# Altium integrated library Texas Instruments Interface I2C.IntLib: 424 symbols (part 20 of 23)
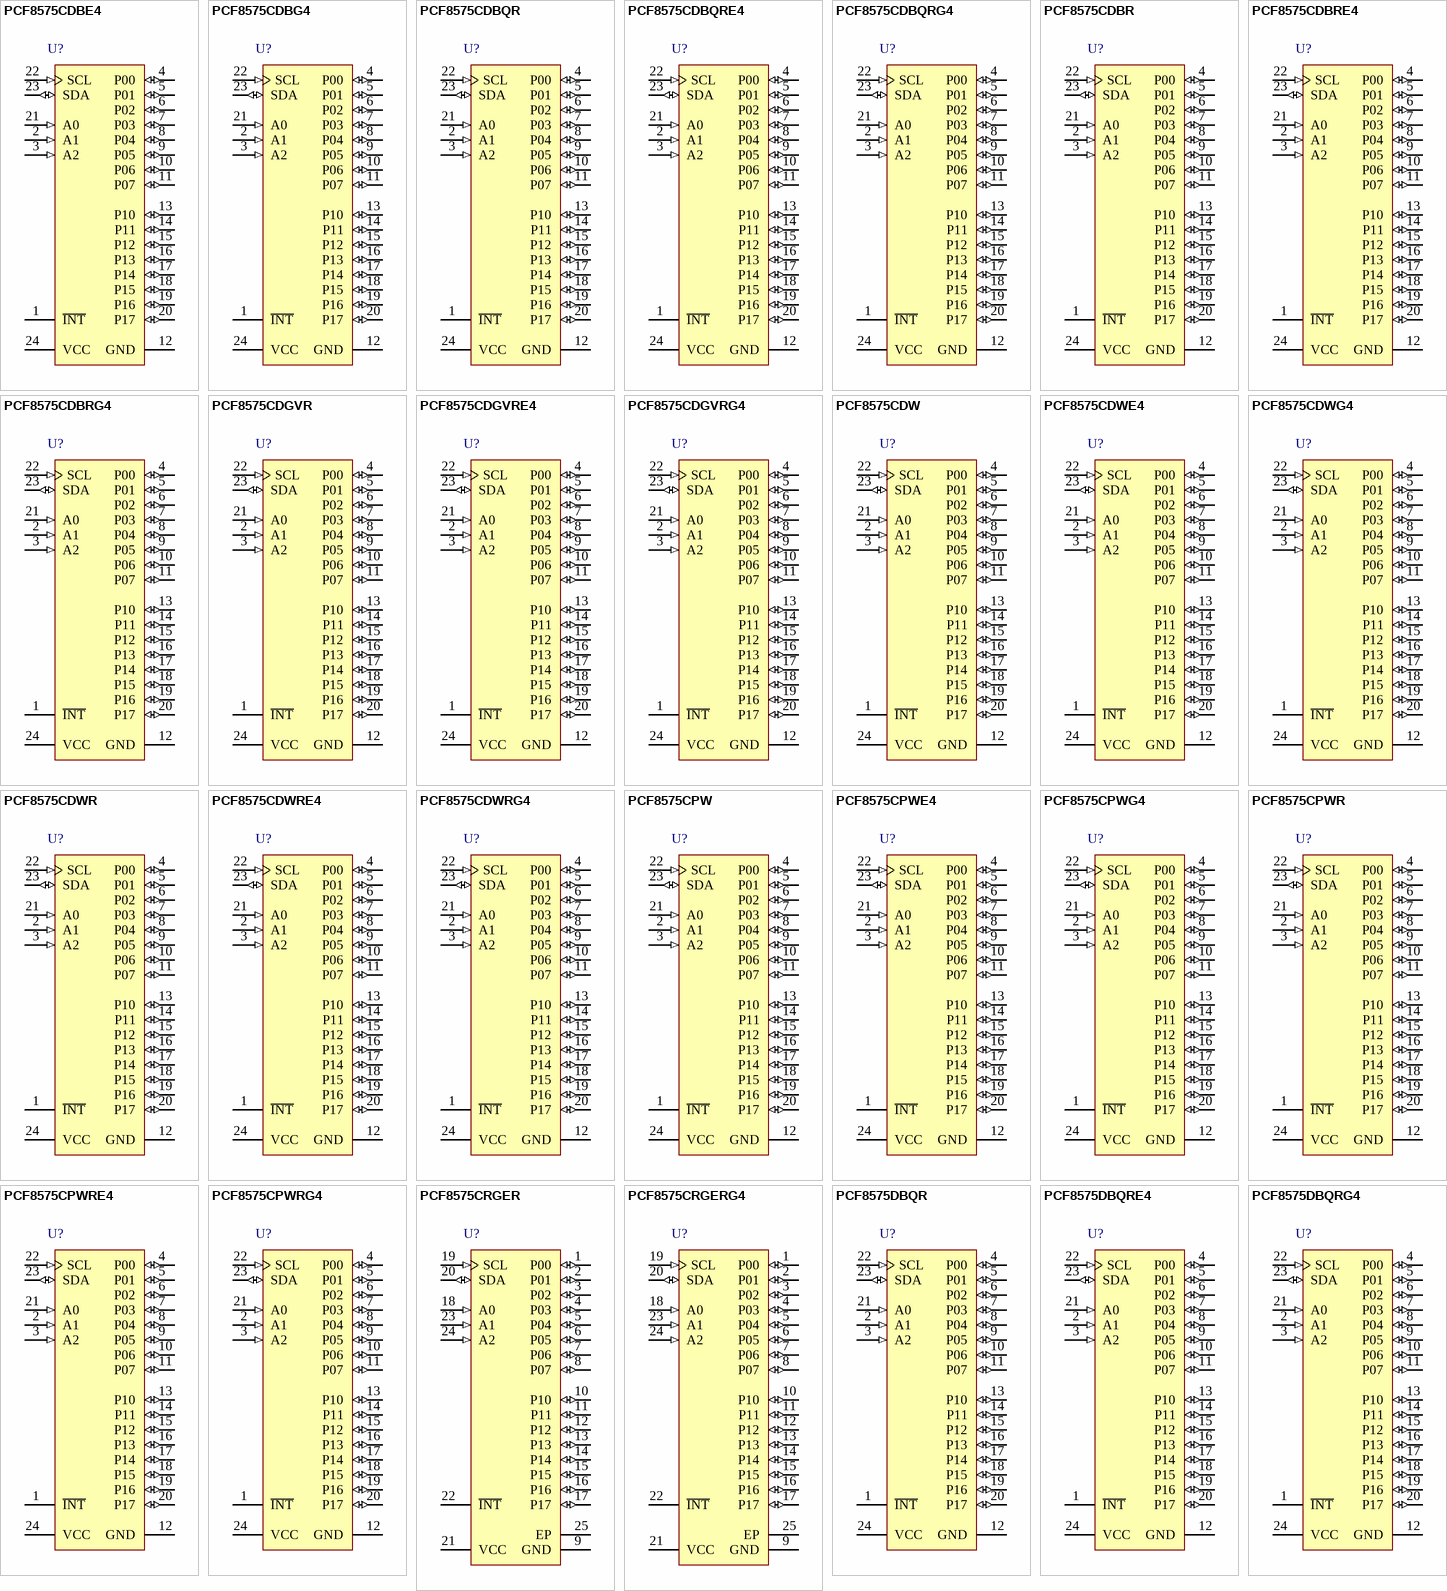
[diagram p32: symbols PCF8575CDBE4 to PCF8575DBQRG4]

## PCF8575CPWRG4
designator U?
Remote 16-Bit I2C and SMBus I/O Expander with Interrupt Output, 4.5 to 5.5 V, -40 to 85 degC, 24-pin TSSOP (PW), Green (RoHS & no Sb/Br); Manufacturer: Texas Instruments; PartNumber: PCF8575CPWRG4; SubFamily: I2C IO Expander; Voltage Nodes(V): 5; Interrupt Output: Yes; fSCLK(Max)(MHz): 0.4; VCC(Min)(V): 4.5; VCC(Max)(V): 5.5; Max Frequency(kHz): 400; I2C Address: 0100 xxx; # of I/Os: 16; DatasheetVersion: SCPS123E; PackageVersion: revG, Feb-2011; PackageReference: PW24; PackageDescription: 24-Pin Thin Small Outline Package 0.65 mm Pitch; Supplier 1: Digi-Key; Supplier Part Number 1: PCF8575CPWRG4-ND; Supplier 2: Newark; Supplier Part Number 2: 46M6814; Supplier 3: Mouser; Supplier Part Number 3: 595-PCF8575CPWRG4; Eco-Plan: Green (RoHS & no Sb/Br); Reset Input: No; Vcc range(V): 4.5 to 5.5; Open Drain I/O Type: Yes; Mounting Technology: Surface Mount; Code_JEDEC: MO-153; ComponentLink1Description: Datasheet; ComponentLink1URL: http://www.ti.com/general/docs/lit/getliterature.tsp?genericPartNumber=PCF8575C&fileType=pdf; ComponentLink2Description: Package Specification; ComponentLink2URL: http://www.ti.com/litv/pdf/mpds177g
footprint PW24_N (TSOP, 24-Leads, Body 7.8x4.4mm, Pitch 0.65mm, IPC Medium Density)
footprint PW24_L (TSOP, 24-Leads, Body 7.8x4.4mm, Pitch 0.65mm, IPC High Density)
footprint PW24_M (TSOP, 24-Leads, Body 7.8x4.4mm, Pitch 0.65mm, IPC Low Density)
pins: 1 ~{INT} (oc) "Interrupt output. Connect to VCC through a pullup resistor.", 2 A1 (in) "Address input 1. Connect directly to VCC or ground. Pullup resistors are not needed.", 3 A2 (in) "Address input 2. Connect directly to VCC or ground. Pullup resistors are not needed.", 4 P00 (io) "P-port input/output. Push-pull design structure.Connect to VCC through a pullup resistor.", 5 P01 (io) "P-port input/output. Push-pull design structure.Connect to VCC through a pullup resistor.", 6 P02 (io) "P-port input/output. Push-pull design structure.Connect to VCC through a pullup resistor.", 7 P03 (io) "P-port input/output. Push-pull design structure.Connect to VCC through a pullup resistor.", 8 P04 (io) "P-port input/output. Push-pull design structure.Connect to VCC through a pullup resistor.", 9 P05 (io) "P-port input/output. Push-pull design structure.Connect to VCC through a pullup resistor.", 10 P06 (io) "P-port input/output. Push-pull design structure.Connect to VCC through a pullup resistor.", 11 P07 (io) "P-port input/output. Push-pull design structure.Connect to VCC through a pullup resistor.", 12 GND (power) "Ground", 13 P10 (io) "P-port input/output. Push-pull design structure.Connect to VCC through a pullup resistor.", 14 P11 (io) "P-port input/output. Push-pull design structure.Connect to VCC through a pullup resistor.", 15 P12 (io) "P-port input/output. Push-pull design structure.Connect to VCC through a pullup resistor.", 16 P13 (io) "P-port input/output. Push-pull design structure.Connect to VCC through a pullup resistor.", 17 P14 (io) "P-port input/output. Push-pull design structure.Connect to VCC through a pullup resistor.", 18 P15 (io) "P-port input/output. Push-pull design structure.Connect to VCC through a pullup resistor.", 19 P16 (io) "P-port input/output. Push-pull design structure.Connect to VCC through a pullup resistor.", 20 P17 (io) "P-port input/output. Push-pull design structure.Connect to VCC through a pullup resistor.", 21 A0 (in) "Address input 0. Connect directly to VCC or ground. Pullup resistors are not needed.", 22 SCL (in) "Serial clock line. Connect to VCC through a pullup resistor.", 23 SDA (io) "Serial data line. Connect to VCC through a pullup resistor.", 24 VCC (power) "Supply voltage"

## PCF8575CRGER
designator U?
Remote 16-Bit I2C and SMBus I/O Expander with Interrupt Output, 4.5 to 5.5 V, -40 to 85 degC, 24-pin VQFN (RGE), Green (RoHS & no Sb/Br); Manufacturer: Texas Instruments; PartNumber: PCF8575CRGER; SubFamily: I2C IO Expander; Voltage Nodes(V): 5; Interrupt Output: Yes; fSCLK(Max)(MHz): 0.4; VCC(Min)(V): 4.5; VCC(Max)(V): 5.5; Max Frequency(kHz): 400; I2C Address: 0100 xxx; # of I/Os: 16; DatasheetVersion: SCPS123E; PackageVersion: revG, Jul-2011; PackageReference: RGE24-2100X2100TP; PackageDescription: 24-Pin Plastic Quad Flatpack No-Lead, 4 x 4 mm Body, 0.5 mm Pitch; Supplier 1: Digi-Key; Supplier Part Number 1: 296-20980-2-ND; Supplier 2: Digi-Key; Supplier Part Number 2: 296-20980-1-ND; Supplier 3: Digi-Key; Supplier Part Number 3: 296-20980-6-ND; Supplier 4: Mouser; Supplier Part Number 4: 595-PCF8575CRGER; Eco-Plan: Green (RoHS & no Sb/Br); Reset Input: No; Vcc range(V): 4.5 to 5.5; Open Drain I/O Type: Yes; Mounting Technology: Surface Mount; Code_JEDEC: MO-220; ComponentLink1Description: Datasheet; ComponentLink1URL: http://www.ti.com/general/docs/lit/getliterature.tsp?genericPartNumber=PCF8575C&fileType=pdf; ComponentLink2Description: Package Specification; ComponentLink2URL: http://www.ti.com/litv/pdf/mpds211a
footprint RGE24-2100X2100TP (QFN, 24-Leads, Body 4x4mm, Pitch 0.5mm, Thermal Pad 2.1x2.1mm, TI Recommended)
pins: 1 P00 (io) "P-port input/output. Push-pull design structure.Connect to VCC through a pullup resistor.", 2 P01 (io) "P-port input/output. Push-pull design structure.Connect to VCC through a pullup resistor.", 3 P02 (io) "P-port input/output. Push-pull design structure.Connect to VCC through a pullup resistor.", 4 P03 (io) "P-port input/output. Push-pull design structure.Connect to VCC through a pullup resistor.", 5 P04 (io) "P-port input/output. Push-pull design structure.Connect to VCC through a pullup resistor.", 6 P05 (io) "P-port input/output. Push-pull design structure.Connect to VCC through a pullup resistor.", 7 P06 (io) "P-port input/output. Push-pull design structure.Connect to VCC through a pullup resistor.", 8 P07 (io) "P-port input/output. Push-pull design structure.Connect to VCC through a pullup resistor.", 9 GND (power) "Ground", 10 P10 (io) "P-port input/output. Push-pull design structure.Connect to VCC through a pullup resistor.", 11 P11 (io) "P-port input/output. Push-pull design structure.Connect to VCC through a pullup resistor.", 12 P12 (io) "P-port input/output. Push-pull design structure.Connect to VCC through a pullup resistor.", 13 P13 (io) "P-port input/output. Push-pull design structure.Connect to VCC through a pullup resistor.", 14 P14 (io) "P-port input/output. Push-pull design structure.Connect to VCC through a pullup resistor.", 15 P15 (io) "P-port input/output. Push-pull design structure.Connect to VCC through a pullup resistor.", 16 P16 (io) "P-port input/output. Push-pull design structure.Connect to VCC through a pullup resistor.", 17 P17 (io) "P-port input/output. Push-pull design structure.Connect to VCC through a pullup resistor.", 18 A0 (in) "Address input 0. Connect directly to VCC or ground. Pullup resistors are not needed.", 19 SCL (in) "Serial clock line. Connect to VCC through a pullup resistor.", 20 SDA (io) "Serial data line. Connect to VCC through a pullup resistor.", 21 VCC (power) "Supply voltage", 22 ~{INT} (oc) "Interrupt output. Connect to VCC through a pullup resistor.", 23 A1 (in) "Address input 1. Connect directly to VCC or ground. Pullup resistors are not needed.", 24 A2 (in) "Address input 2. Connect directly to VCC or ground. Pullup resistors are not needed.", 25 EP "Exposed thermal pad"

## PCF8575CRGERG4
designator U?
Remote 16-Bit I2C and SMBus I/O Expander with Interrupt Output, 4.5 to 5.5 V, -40 to 85 degC, 24-pin VQFN (RGE), Green (RoHS & no Sb/Br); Manufacturer: Texas Instruments; PartNumber: PCF8575CRGERG4; SubFamily: I2C IO Expander; Voltage Nodes(V): 5; Interrupt Output: Yes; fSCLK(Max)(MHz): 0.4; VCC(Min)(V): 4.5; VCC(Max)(V): 5.5; Max Frequency(kHz): 400; I2C Address: 0100 xxx; # of I/Os: 16; DatasheetVersion: SCPS123E; PackageVersion: revG, Jul-2011; PackageReference: RGE24-2100X2100TP; PackageDescription: 24-Pin Plastic Quad Flatpack No-Lead, 4 x 4 mm Body, 0.5 mm Pitch; Supplier 1: Digi-Key; Supplier Part Number 1: PCF8575CRGERG4-ND; Supplier 2: Mouser; Supplier Part Number 2: 595-PCF8575CRGERG4; Eco-Plan: Green (RoHS & no Sb/Br); Reset Input: No; Vcc range(V): 4.5 to 5.5; Open Drain I/O Type: Yes; Mounting Technology: Surface Mount; Code_JEDEC: MO-220; ComponentLink1Description: Datasheet; ComponentLink1URL: http://www.ti.com/general/docs/lit/getliterature.tsp?genericPartNumber=PCF8575C&fileType=pdf; ComponentLink2Description: Package Specification; ComponentLink2URL: http://www.ti.com/litv/pdf/mpds211a
footprint RGE24-2100X2100TP (QFN, 24-Leads, Body 4x4mm, Pitch 0.5mm, Thermal Pad 2.1x2.1mm, TI Recommended)
pins: 1 P00 (io) "P-port input/output. Push-pull design structure.Connect to VCC through a pullup resistor.", 2 P01 (io) "P-port input/output. Push-pull design structure.Connect to VCC through a pullup resistor.", 3 P02 (io) "P-port input/output. Push-pull design structure.Connect to VCC through a pullup resistor.", 4 P03 (io) "P-port input/output. Push-pull design structure.Connect to VCC through a pullup resistor.", 5 P04 (io) "P-port input/output. Push-pull design structure.Connect to VCC through a pullup resistor.", 6 P05 (io) "P-port input/output. Push-pull design structure.Connect to VCC through a pullup resistor.", 7 P06 (io) "P-port input/output. Push-pull design structure.Connect to VCC through a pullup resistor.", 8 P07 (io) "P-port input/output. Push-pull design structure.Connect to VCC through a pullup resistor.", 9 GND (power) "Ground", 10 P10 (io) "P-port input/output. Push-pull design structure.Connect to VCC through a pullup resistor.", 11 P11 (io) "P-port input/output. Push-pull design structure.Connect to VCC through a pullup resistor.", 12 P12 (io) "P-port input/output. Push-pull design structure.Connect to VCC through a pullup resistor.", 13 P13 (io) "P-port input/output. Push-pull design structure.Connect to VCC through a pullup resistor.", 14 P14 (io) "P-port input/output. Push-pull design structure.Connect to VCC through a pullup resistor.", 15 P15 (io) "P-port input/output. Push-pull design structure.Connect to VCC through a pullup resistor.", 16 P16 (io) "P-port input/output. Push-pull design structure.Connect to VCC through a pullup resistor.", 17 P17 (io) "P-port input/output. Push-pull design structure.Connect to VCC through a pullup resistor.", 18 A0 (in) "Address input 0. Connect directly to VCC or ground. Pullup resistors are not needed.", 19 SCL (in) "Serial clock line. Connect to VCC through a pullup resistor.", 20 SDA (io) "Serial data line. Connect to VCC through a pullup resistor.", 21 VCC (power) "Supply voltage", 22 ~{INT} (oc) "Interrupt output. Connect to VCC through a pullup resistor.", 23 A1 (in) "Address input 1. Connect directly to VCC or ground. Pullup resistors are not needed.", 24 A2 (in) "Address input 2. Connect directly to VCC or ground. Pullup resistors are not needed.", 25 EP "Exposed thermal pad"

## PCF8575DBQR
designator U?
Remote 16-Bit I2C and SMBus I/O Expander with Interrupt Output, 2.5 to 5.5 V, -40 to 85 degC, 24-pin SSOP (DBQ), Green (RoHS & no Sb/Br); Manufacturer: Texas Instruments; PartNumber: PCF8575DBQR; SubFamily: I2C IO Expander; Voltage Nodes(V): 5.5, 3.6, 2.7, 2.5; Interrupt Output: Yes; fSCLK(Max)(MHz): 0.4; VCC(Min)(V): 2.5; VCC(Max)(V): 5.5; Max Frequency(kHz): 400; I2C Address: 0100 xxx; # of I/Os: 16; DatasheetVersion: SCPS121D; PackageVersion: revH, Oct-2008; PackageReference: DBQ24; PackageDescription: 24-Pin Small Outline Package 0.635 mm Pitch; Supplier 1: Digi-Key; Supplier Part Number 1: 296-17806-2-ND; Supplier 2: Digi-Key; Supplier Part Number 2: 296-17806-1-ND; Supplier 3: Digi-Key; Supplier Part Number 3: 296-17806-6-ND; Supplier 4: Mouser; Supplier Part Number 4: 595-PCF8575DBQR; Eco-Plan: Green (RoHS & no Sb/Br); Reset Input: No; Vcc range(V): 2.5 to 5.5; Push-Pull I/O Type: Yes; Mounting Technology: Surface Mount; Code_JEDEC: MO-137-AE; ComponentLink1Description: Datasheet; ComponentLink1URL: http://www.ti.com/general/docs/lit/getliterature.tsp?genericPartNumber=PCF8575&fileType=pdf; ComponentLink2Description: Package Specification; ComponentLink2URL: http://www.ti.com/litv/pdf/mpds211a
footprint DBQ024_N (SOP, 24-Leads, Body 8.7x3.9mm, Pitch 0.635mm, IPC Medium Density)
footprint DBQ024_L (SOP, 24-Leads, Body 8.7x3.9mm, Pitch 0.635mm, IPC High Density)
footprint DBQ024_M (SOP, 24-Leads, Body 8.7x3.9mm, Pitch 0.635mm, IPC Low Density)
pins: 1 ~{INT} (oc) "Interrupt output. Connect to VCC through a pullup resistor.", 2 A1 (in) "Address input 1. Connect directly to VCC or ground. Pullup resistors are not needed.", 3 A2 (in) "Address input 2. Connect directly to VCC or ground. Pullup resistors are not needed.", 4 P00 (io) "P-port input/output. Push-pull design structure.", 5 P01 (io) "P-port input/output. Push-pull design structure.", 6 P02 (io) "P-port input/output. Push-pull design structure.", 7 P03 (io) "P-port input/output. Push-pull design structure.", 8 P04 (io) "P-port input/output. Push-pull design structure.", 9 P05 (io) "P-port input/output. Push-pull design structure.", 10 P06 (io) "P-port input/output. Push-pull design structure.", 11 P07 (io) "P-port input/output. Push-pull design structure.", 12 GND (power) "Ground", 13 P10 (io) "P-port input/output. Push-pull design structure.", 14 P11 (io) "P-port input/output. Push-pull design structure.", 15 P12 (io) "P-port input/output. Push-pull design structure.", 16 P13 (io) "P-port input/output. Push-pull design structure.", 17 P14 (io) "P-port input/output. Push-pull design structure.", 18 P15 (io) "P-port input/output. Push-pull design structure.", 19 P16 (io) "P-port input/output. Push-pull design structure.", 20 P17 (io) "P-port input/output. Push-pull design structure.", 21 A0 (in) "Address input 0. Connect directly to VCC or ground. Pullup resistors are not needed.", 22 SCL (in) "Serial clock line. Connect to VCC through a pullup resistor.", 23 SDA (io) "Serial data line. Connect to VCC through a pullup resistor.", 24 VCC (power) "Supply voltage"

## PCF8575DBQRE4
designator U?
Remote 16-Bit I2C and SMBus I/O Expander with Interrupt Output, 2.5 to 5.5 V, -40 to 85 degC, 24-pin SSOP (DBQ), Green (RoHS & no Sb/Br); Manufacturer: Texas Instruments; PartNumber: PCF8575DBQRE4; SubFamily: I2C IO Expander; Voltage Nodes(V): 5.5, 3.6, 2.7, 2.5; Interrupt Output: Yes; fSCLK(Max)(MHz): 0.4; VCC(Min)(V): 2.5; VCC(Max)(V): 5.5; Max Frequency(kHz): 400; I2C Address: 0100 xxx; # of I/Os: 16; DatasheetVersion: SCPS121D; PackageVersion: revH, Oct-2008; PackageReference: DBQ24; PackageDescription: 24-Pin Small Outline Package 0.635 mm Pitch; Supplier 1: Digi-Key; Supplier Part Number 1: PCF8575DBQRE4-ND; Supplier 2: Mouser; Supplier Part Number 2: 595-PCF8575DBQRE4; Eco-Plan: Green (RoHS & no Sb/Br); Reset Input: No; Vcc range(V): 2.5 to 5.5; Push-Pull I/O Type: Yes; Mounting Technology: Surface Mount; Code_JEDEC: MO-137-AE; ComponentLink1Description: Datasheet; ComponentLink1URL: http://www.ti.com/general/docs/lit/getliterature.tsp?genericPartNumber=PCF8575&fileType=pdf; ComponentLink2Description: Package Specification; ComponentLink2URL: http://www.ti.com/litv/pdf/mpds211a
footprint DBQ024_N (SOP, 24-Leads, Body 8.7x3.9mm, Pitch 0.635mm, IPC Medium Density)
footprint DBQ024_L (SOP, 24-Leads, Body 8.7x3.9mm, Pitch 0.635mm, IPC High Density)
footprint DBQ024_M (SOP, 24-Leads, Body 8.7x3.9mm, Pitch 0.635mm, IPC Low Density)
pins: 1 ~{INT} (oc) "Interrupt output. Connect to VCC through a pullup resistor.", 2 A1 (in) "Address input 1. Connect directly to VCC or ground. Pullup resistors are not needed.", 3 A2 (in) "Address input 2. Connect directly to VCC or ground. Pullup resistors are not needed.", 4 P00 (io) "P-port input/output. Push-pull design structure.", 5 P01 (io) "P-port input/output. Push-pull design structure.", 6 P02 (io) "P-port input/output. Push-pull design structure.", 7 P03 (io) "P-port input/output. Push-pull design structure.", 8 P04 (io) "P-port input/output. Push-pull design structure.", 9 P05 (io) "P-port input/output. Push-pull design structure.", 10 P06 (io) "P-port input/output. Push-pull design structure.", 11 P07 (io) "P-port input/output. Push-pull design structure.", 12 GND (power) "Ground", 13 P10 (io) "P-port input/output. Push-pull design structure.", 14 P11 (io) "P-port input/output. Push-pull design structure.", 15 P12 (io) "P-port input/output. Push-pull design structure.", 16 P13 (io) "P-port input/output. Push-pull design structure.", 17 P14 (io) "P-port input/output. Push-pull design structure.", 18 P15 (io) "P-port input/output. Push-pull design structure.", 19 P16 (io) "P-port input/output. Push-pull design structure.", 20 P17 (io) "P-port input/output. Push-pull design structure.", 21 A0 (in) "Address input 0. Connect directly to VCC or ground. Pullup resistors are not needed.", 22 SCL (in) "Serial clock line. Connect to VCC through a pullup resistor.", 23 SDA (io) "Serial data line. Connect to VCC through a pullup resistor.", 24 VCC (power) "Supply voltage"

## PCF8575DBQRG4
designator U?
Remote 16-Bit I2C and SMBus I/O Expander with Interrupt Output, 2.5 to 5.5 V, -40 to 85 degC, 24-pin SSOP (DBQ), Green (RoHS & no Sb/Br); Manufacturer: Texas Instruments; PartNumber: PCF8575DBQRG4; SubFamily: I2C IO Expander; Voltage Nodes(V): 5.5, 3.6, 2.7, 2.5; Interrupt Output: Yes; fSCLK(Max)(MHz): 0.4; VCC(Min)(V): 2.5; VCC(Max)(V): 5.5; Max Frequency(kHz): 400; I2C Address: 0100 xxx; # of I/Os: 16; DatasheetVersion: SCPS121D; PackageVersion: revH, Oct-2008; PackageReference: DBQ24; PackageDescription: 24-Pin Small Outline Package 0.635 mm Pitch; Supplier 1: Digi-Key; Supplier Part Number 1: PCF8575DBQRG4-ND; Supplier 2: Mouser; Supplier Part Number 2: 595-PCF8575DBQRG4; Eco-Plan: Green (RoHS & no Sb/Br); Reset Input: No; Vcc range(V): 2.5 to 5.5; Push-Pull I/O Type: Yes; Mounting Technology: Surface Mount; Code_JEDEC: MO-137-AE; ComponentLink1Description: Datasheet; ComponentLink1URL: http://www.ti.com/general/docs/lit/getliterature.tsp?genericPartNumber=PCF8575&fileType=pdf; ComponentLink2Description: Package Specification; ComponentLink2URL: http://www.ti.com/litv/pdf/mpds211a
footprint DBQ024_N (SOP, 24-Leads, Body 8.7x3.9mm, Pitch 0.635mm, IPC Medium Density)
footprint DBQ024_L (SOP, 24-Leads, Body 8.7x3.9mm, Pitch 0.635mm, IPC High Density)
footprint DBQ024_M (SOP, 24-Leads, Body 8.7x3.9mm, Pitch 0.635mm, IPC Low Density)
pins: 1 ~{INT} (oc) "Interrupt output. Connect to VCC through a pullup resistor.", 2 A1 (in) "Address input 1. Connect directly to VCC or ground. Pullup resistors are not needed.", 3 A2 (in) "Address input 2. Connect directly to VCC or ground. Pullup resistors are not needed.", 4 P00 (io) "P-port input/output. Push-pull design structure.", 5 P01 (io) "P-port input/output. Push-pull design structure.", 6 P02 (io) "P-port input/output. Push-pull design structure.", 7 P03 (io) "P-port input/output. Push-pull design structure.", 8 P04 (io) "P-port input/output. Push-pull design structure.", 9 P05 (io) "P-port input/output. Push-pull design structure.", 10 P06 (io) "P-port input/output. Push-pull design structure.", 11 P07 (io) "P-port input/output. Push-pull design structure.", 12 GND (power) "Ground", 13 P10 (io) "P-port input/output. Push-pull design structure.", 14 P11 (io) "P-port input/output. Push-pull design structure.", 15 P12 (io) "P-port input/output. Push-pull design structure.", 16 P13 (io) "P-port input/output. Push-pull design structure.", 17 P14 (io) "P-port input/output. Push-pull design structure.", 18 P15 (io) "P-port input/output. Push-pull design structure.", 19 P16 (io) "P-port input/output. Push-pull design structure.", 20 P17 (io) "P-port input/output. Push-pull design structure.", 21 A0 (in) "Address input 0. Connect directly to VCC or ground. Pullup resistors are not needed.", 22 SCL (in) "Serial clock line. Connect to VCC through a pullup resistor.", 23 SDA (io) "Serial data line. Connect to VCC through a pullup resistor.", 24 VCC (power) "Supply voltage"

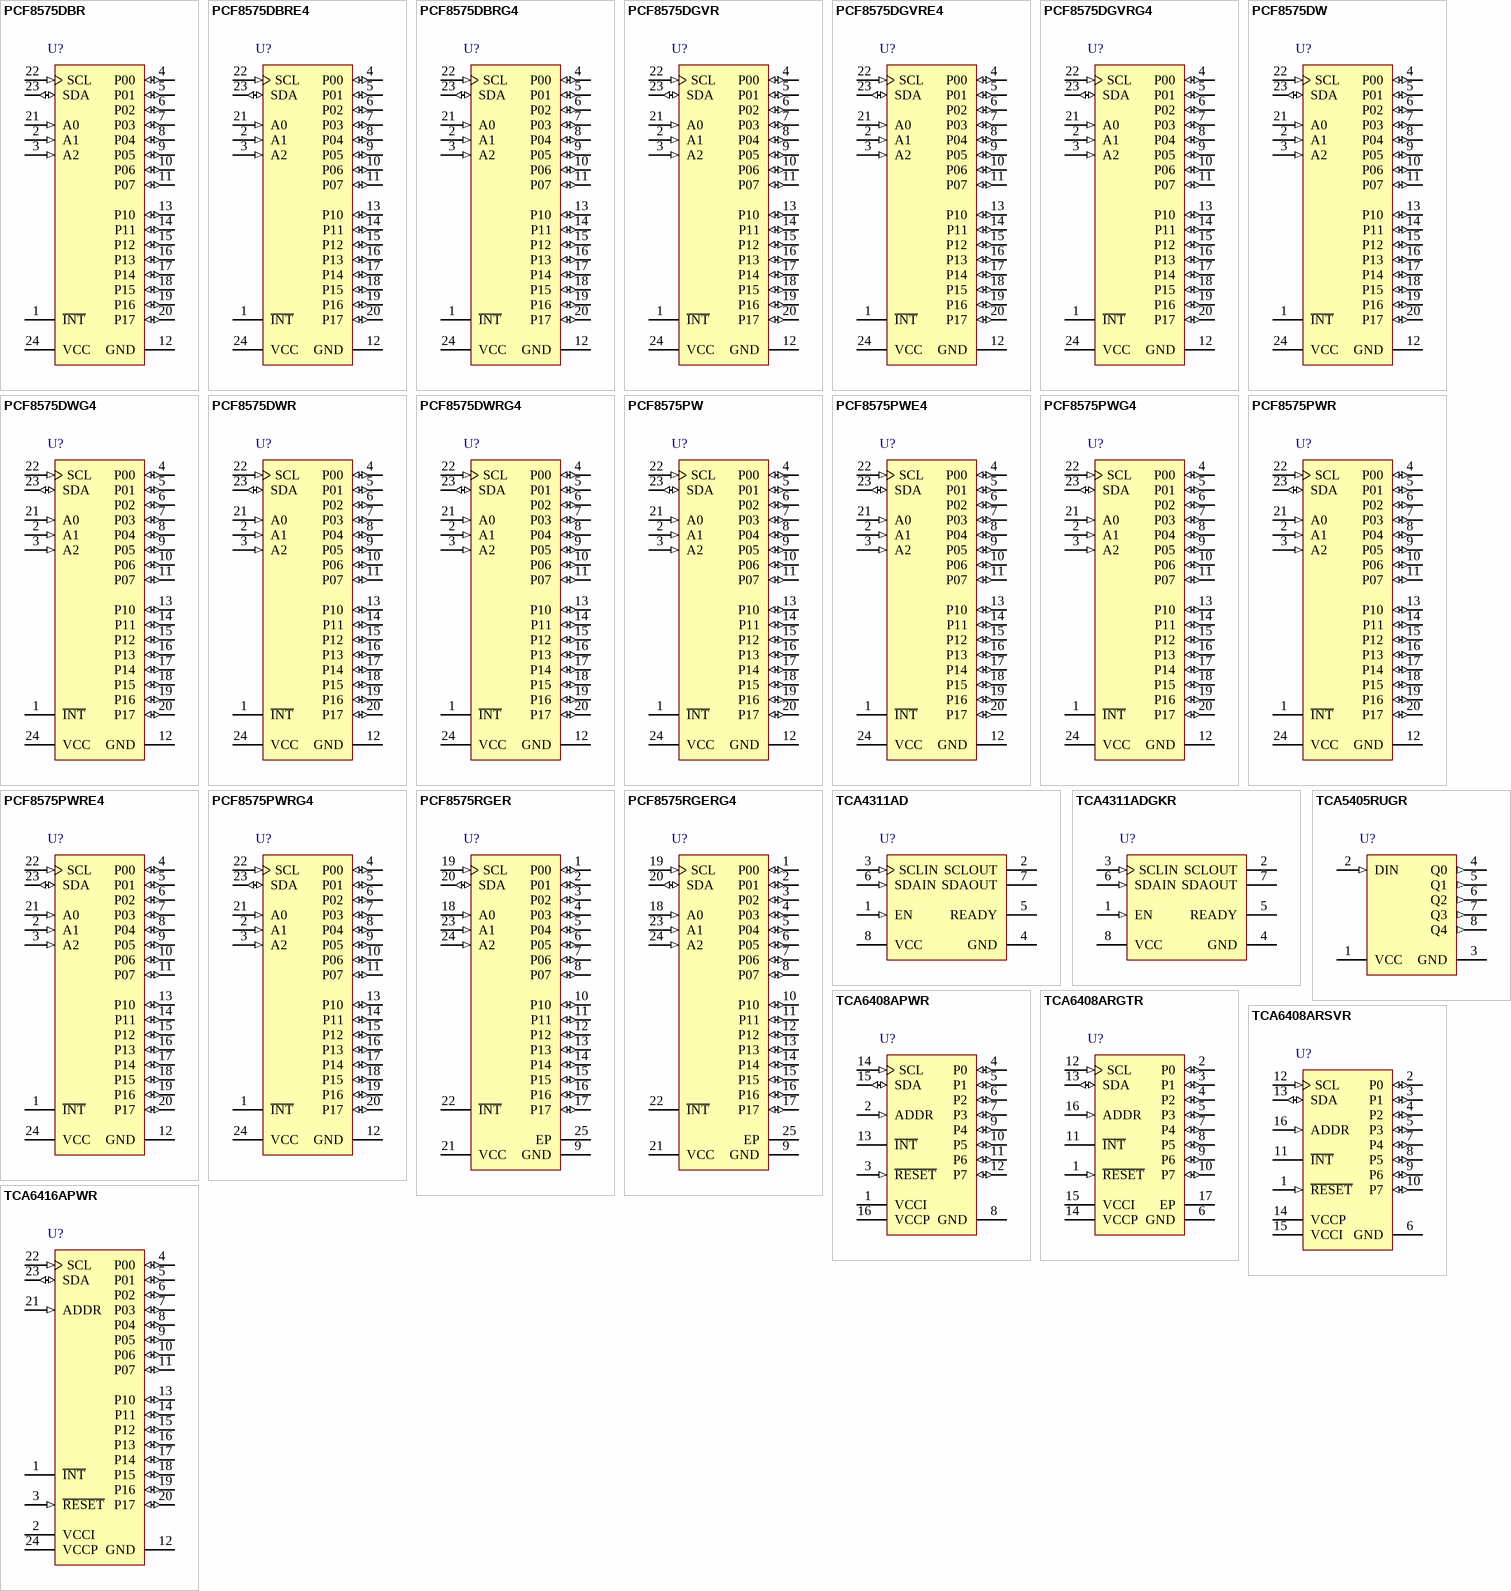
[diagram p12: symbols PCF8575DBR to TCA6416APWR]

## PCF8575DBR
designator U?
Remote 16-Bit I2C and SMBus I/O Expander with Interrupt Output, 2.5 to 5.5 V, -40 to 85 degC, 24-pin SSOP (DB), Green (RoHS & no Sb/Br); Manufacturer: Texas Instruments; PartNumber: PCF8575DBR; SubFamily: I2C IO Expander; Voltage Nodes(V): 5.5, 3.6, 2.7, 2.5; Interrupt Output: Yes; fSCLK(Max)(MHz): 0.4; VCC(Min)(V): 2.5; VCC(Max)(V): 5.5; Max Frequency(kHz): 400; I2C Address: 0100 xxx; # of I/Os: 16; DatasheetVersion: SCPS121D; PackageVersion: revE, Dec-2001; PackageReference: DB24; PackageDescription: 24-Pin Plastic Small Outline Package, 8.2 x 5.3 mm Body, 0.65 mm Pitch; Supplier 1: Digi-Key; Supplier Part Number 1: 296-17856-2-ND; Supplier 2: Digi-Key; Supplier Part Number 2: 296-17856-1-ND; Supplier 3: Digi-Key; Supplier Part Number 3: 296-17856-6-ND; Supplier 4: Newark; Supplier Part Number 4: 24K4707; Supplier 5: Mouser; Supplier Part Number 5: 595-PCF8575DBR; Eco-Plan: Green (RoHS & no Sb/Br); Reset Input: No; Vcc range(V): 2.5 to 5.5; Push-Pull I/O Type: Yes; Mounting Technology: Surface Mount; Code_JEDEC: MO-150; ComponentLink1Description: Datasheet; ComponentLink1URL: http://www.ti.com/general/docs/lit/getliterature.tsp?genericPartNumber=PCF8575&fileType=pdf; ComponentLink2Description: Package Specification; ComponentLink2URL: http://www.ti.com/litv/pdf/mpds211a
footprint DB24_N (SOP, 24-Leads, Body 8.2x5.3mm, Pitch 0.65mm, IPC Medium Density)
footprint DB24_L (SOP, 24-Leads, Body 8.2x5.3mm, Pitch 0.65mm, IPC High Density)
footprint DB24_M (SOP, 24-Leads, Body 8.2x5.3mm, Pitch 0.65mm, IPC Low Density)
pins: 1 ~{INT} (oc) "Interrupt output. Connect to VCC through a pullup resistor.", 2 A1 (in) "Address input 1. Connect directly to VCC or ground. Pullup resistors are not needed.", 3 A2 (in) "Address input 2. Connect directly to VCC or ground. Pullup resistors are not needed.", 4 P00 (io) "P-port input/output. Push-pull design structure.Connect to VCC through a pullup resistor.", 5 P01 (io) "P-port input/output. Push-pull design structure.Connect to VCC through a pullup resistor.", 6 P02 (io) "P-port input/output. Push-pull design structure.Connect to VCC through a pullup resistor.", 7 P03 (io) "P-port input/output. Push-pull design structure.Connect to VCC through a pullup resistor.", 8 P04 (io) "P-port input/output. Push-pull design structure.Connect to VCC through a pullup resistor.", 9 P05 (io) "P-port input/output. Push-pull design structure.Connect to VCC through a pullup resistor.", 10 P06 (io) "P-port input/output. Push-pull design structure.Connect to VCC through a pullup resistor.", 11 P07 (io) "P-port input/output. Push-pull design structure.Connect to VCC through a pullup resistor.", 12 GND (power) "Ground", 13 P10 (io) "P-port input/output. Push-pull design structure.Connect to VCC through a pullup resistor.", 14 P11 (io) "P-port input/output. Push-pull design structure.Connect to VCC through a pullup resistor.", 15 P12 (io) "P-port input/output. Push-pull design structure.Connect to VCC through a pullup resistor.", 16 P13 (io) "P-port input/output. Push-pull design structure.Connect to VCC through a pullup resistor.", 17 P14 (io) "P-port input/output. Push-pull design structure.Connect to VCC through a pullup resistor.", 18 P15 (io) "P-port input/output. Push-pull design structure.Connect to VCC through a pullup resistor.", 19 P16 (io) "P-port input/output. Push-pull design structure.Connect to VCC through a pullup resistor.", 20 P17 (io) "P-port input/output. Push-pull design structure.Connect to VCC through a pullup resistor.", 21 A0 (in) "Address input 0. Connect directly to VCC or ground. Pullup resistors are not needed.", 22 SCL (in) "Serial clock line. Connect to VCC through a pullup resistor.", 23 SDA (io) "Serial data line. Connect to VCC through a pullup resistor.", 24 VCC (power) "Supply voltage"

## PCF8575DBRE4
designator U?
Remote 16-Bit I2C and SMBus I/O Expander with Interrupt Output, 2.5 to 5.5 V, -40 to 85 degC, 24-pin SSOP (DB), Green (RoHS & no Sb/Br); Manufacturer: Texas Instruments; PartNumber: PCF8575DBRE4; SubFamily: I2C IO Expander; Voltage Nodes(V): 5.5, 3.6, 2.7, 2.5; Interrupt Output: Yes; fSCLK(Max)(MHz): 0.4; VCC(Min)(V): 2.5; VCC(Max)(V): 5.5; Max Frequency(kHz): 400; I2C Address: 0100 xxx; # of I/Os: 16; DatasheetVersion: SCPS121D; PackageVersion: revE, Dec-2001; PackageReference: DB24; PackageDescription: 24-Pin Plastic Small Outline Package, 8.2 x 5.3 mm Body, 0.65 mm Pitch; Supplier 1: Digi-Key; Supplier Part Number 1: PCF8575DBRE4-ND; Supplier 2: Mouser; Supplier Part Number 2: 595-PCF8575DBRE4; Eco-Plan: Green (RoHS & no Sb/Br); Reset Input: No; Vcc range(V): 2.5 to 5.5; Push-Pull I/O Type: Yes; Mounting Technology: Surface Mount; Code_JEDEC: MO-150; ComponentLink1Description: Datasheet; ComponentLink1URL: http://www.ti.com/general/docs/lit/getliterature.tsp?genericPartNumber=PCF8575&fileType=pdf; ComponentLink2Description: Package Specification; ComponentLink2URL: http://www.ti.com/litv/pdf/mpds211a
footprint DB24_N (SOP, 24-Leads, Body 8.2x5.3mm, Pitch 0.65mm, IPC Medium Density)
footprint DB24_L (SOP, 24-Leads, Body 8.2x5.3mm, Pitch 0.65mm, IPC High Density)
footprint DB24_M (SOP, 24-Leads, Body 8.2x5.3mm, Pitch 0.65mm, IPC Low Density)
pins: 1 ~{INT} (oc) "Interrupt output. Connect to VCC through a pullup resistor.", 2 A1 (in) "Address input 1. Connect directly to VCC or ground. Pullup resistors are not needed.", 3 A2 (in) "Address input 2. Connect directly to VCC or ground. Pullup resistors are not needed.", 4 P00 (io) "P-port input/output. Push-pull design structure.Connect to VCC through a pullup resistor.", 5 P01 (io) "P-port input/output. Push-pull design structure.Connect to VCC through a pullup resistor.", 6 P02 (io) "P-port input/output. Push-pull design structure.Connect to VCC through a pullup resistor.", 7 P03 (io) "P-port input/output. Push-pull design structure.Connect to VCC through a pullup resistor.", 8 P04 (io) "P-port input/output. Push-pull design structure.Connect to VCC through a pullup resistor.", 9 P05 (io) "P-port input/output. Push-pull design structure.Connect to VCC through a pullup resistor.", 10 P06 (io) "P-port input/output. Push-pull design structure.Connect to VCC through a pullup resistor.", 11 P07 (io) "P-port input/output. Push-pull design structure.Connect to VCC through a pullup resistor.", 12 GND (power) "Ground", 13 P10 (io) "P-port input/output. Push-pull design structure.Connect to VCC through a pullup resistor.", 14 P11 (io) "P-port input/output. Push-pull design structure.Connect to VCC through a pullup resistor.", 15 P12 (io) "P-port input/output. Push-pull design structure.Connect to VCC through a pullup resistor.", 16 P13 (io) "P-port input/output. Push-pull design structure.Connect to VCC through a pullup resistor.", 17 P14 (io) "P-port input/output. Push-pull design structure.Connect to VCC through a pullup resistor.", 18 P15 (io) "P-port input/output. Push-pull design structure.Connect to VCC through a pullup resistor.", 19 P16 (io) "P-port input/output. Push-pull design structure.Connect to VCC through a pullup resistor.", 20 P17 (io) "P-port input/output. Push-pull design structure.Connect to VCC through a pullup resistor.", 21 A0 (in) "Address input 0. Connect directly to VCC or ground. Pullup resistors are not needed.", 22 SCL (in) "Serial clock line. Connect to VCC through a pullup resistor.", 23 SDA (io) "Serial data line. Connect to VCC through a pullup resistor.", 24 VCC (power) "Supply voltage"

## PCF8575DBRG4
designator U?
Remote 16-Bit I2C and SMBus I/O Expander with Interrupt Output, 2.5 to 5.5 V, -40 to 85 degC, 24-pin SSOP (DB), Green (RoHS & no Sb/Br); Manufacturer: Texas Instruments; PartNumber: PCF8575DBRG4; SubFamily: I2C IO Expander; Voltage Nodes(V): 5.5, 3.6, 2.7, 2.5; Interrupt Output: Yes; fSCLK(Max)(MHz): 0.4; VCC(Min)(V): 2.5; VCC(Max)(V): 5.5; Max Frequency(kHz): 400; I2C Address: 0100 xxx; # of I/Os: 16; DatasheetVersion: SCPS121D; PackageVersion: revE, Dec-2001; PackageReference: DB24; PackageDescription: 24-Pin Plastic Small Outline Package, 8.2 x 5.3 mm Body, 0.65 mm Pitch; Supplier 1: Digi-Key; Supplier Part Number 1: PCF8575DBRG4-ND; Supplier 2: Mouser; Supplier Part Number 2: 595-PCF8575DBRG4; Eco-Plan: Green (RoHS & no Sb/Br); Reset Input: No; Vcc range(V): 2.5 to 5.5; Push-Pull I/O Type: Yes; Mounting Technology: Surface Mount; Code_JEDEC: MO-150; ComponentLink1Description: Datasheet; ComponentLink1URL: http://www.ti.com/general/docs/lit/getliterature.tsp?genericPartNumber=PCF8575&fileType=pdf; ComponentLink2Description: Package Specification; ComponentLink2URL: http://www.ti.com/litv/pdf/mpds211a
footprint DB24_N (SOP, 24-Leads, Body 8.2x5.3mm, Pitch 0.65mm, IPC Medium Density)
footprint DB24_L (SOP, 24-Leads, Body 8.2x5.3mm, Pitch 0.65mm, IPC High Density)
footprint DB24_M (SOP, 24-Leads, Body 8.2x5.3mm, Pitch 0.65mm, IPC Low Density)
pins: 1 ~{INT} (oc) "Interrupt output. Connect to VCC through a pullup resistor.", 2 A1 (in) "Address input 1. Connect directly to VCC or ground. Pullup resistors are not needed.", 3 A2 (in) "Address input 2. Connect directly to VCC or ground. Pullup resistors are not needed.", 4 P00 (io) "P-port input/output. Push-pull design structure.Connect to VCC through a pullup resistor.", 5 P01 (io) "P-port input/output. Push-pull design structure.Connect to VCC through a pullup resistor.", 6 P02 (io) "P-port input/output. Push-pull design structure.Connect to VCC through a pullup resistor.", 7 P03 (io) "P-port input/output. Push-pull design structure.Connect to VCC through a pullup resistor.", 8 P04 (io) "P-port input/output. Push-pull design structure.Connect to VCC through a pullup resistor.", 9 P05 (io) "P-port input/output. Push-pull design structure.Connect to VCC through a pullup resistor.", 10 P06 (io) "P-port input/output. Push-pull design structure.Connect to VCC through a pullup resistor.", 11 P07 (io) "P-port input/output. Push-pull design structure.Connect to VCC through a pullup resistor.", 12 GND (power) "Ground", 13 P10 (io) "P-port input/output. Push-pull design structure.Connect to VCC through a pullup resistor.", 14 P11 (io) "P-port input/output. Push-pull design structure.Connect to VCC through a pullup resistor.", 15 P12 (io) "P-port input/output. Push-pull design structure.Connect to VCC through a pullup resistor.", 16 P13 (io) "P-port input/output. Push-pull design structure.Connect to VCC through a pullup resistor.", 17 P14 (io) "P-port input/output. Push-pull design structure.Connect to VCC through a pullup resistor.", 18 P15 (io) "P-port input/output. Push-pull design structure.Connect to VCC through a pullup resistor.", 19 P16 (io) "P-port input/output. Push-pull design structure.Connect to VCC through a pullup resistor.", 20 P17 (io) "P-port input/output. Push-pull design structure.Connect to VCC through a pullup resistor.", 21 A0 (in) "Address input 0. Connect directly to VCC or ground. Pullup resistors are not needed.", 22 SCL (in) "Serial clock line. Connect to VCC through a pullup resistor.", 23 SDA (io) "Serial data line. Connect to VCC through a pullup resistor.", 24 VCC (power) "Supply voltage"

## PCF8575DGVR
designator U?
Remote 16-Bit I2C and SMBus I/O Expander with Interrupt Output, 2.5 to 5.5 V, -40 to 85 degC, 24-pin TVSOP (DGV), Green (RoHS & no Sb/Br); Manufacturer: Texas Instruments; PartNumber: PCF8575DGVR; SubFamily: I2C IO Expander; Voltage Nodes(V): 5.5, 3.6, 2.7, 2.5; Interrupt Output: Yes; fSCLK(Max)(MHz): 0.4; VCC(Min)(V): 2.5; VCC(Max)(V): 5.5; Max Frequency(kHz): 400; I2C Address: 0100 xxx; # of I/Os: 16; DatasheetVersion: SCPS121D; PackageVersion: revE, Aug-2000; PackageReference: DGV24; PackageDescription: 24-Pin Thin Shrink Small Outline Package 0.4 mm Pitch; Supplier 1: Digi-Key; Supplier Part Number 1: 296-17792-2-ND; Supplier 2: Digi-Key; Supplier Part Number 2: 296-17792-1-ND; Supplier 3: Digi-Key; Supplier Part Number 3: 296-17792-6-ND; Supplier 4: Mouser; Supplier Part Number 4: 595-PCF8575DGVR; Eco-Plan: Green (RoHS & no Sb/Br); Reset Input: No; Vcc range(V): 2.5 to 5.5; Push-Pull I/O Type: Yes; Mounting Technology: Surface Mount; ComponentLink1Description: Datasheet; ComponentLink1URL: http://www.ti.com/general/docs/lit/getliterature.tsp?genericPartNumber=PCF8575&fileType=pdf; ComponentLink2Description: Package Specification; ComponentLink2URL: http://www.ti.com/litv/pdf/mpds211a
footprint DGV24_N (TSSOP, 24-Leads, Body 5x4.4mm, Pitch 0.4mm, IPC Medium Density)
footprint DGV24_L (TSSOP, 24-Leads, Body 5x4.4mm, Pitch 0.4mm, IPC High Density)
footprint DGV24_M (TSSOP, 24-Leads, Body 5x4.4mm, Pitch 0.4mm, IPC Low Density)
pins: 1 ~{INT} (oc) "Interrupt output. Connect to VCC through a pullup resistor", 2 A1 (in) "Address input 1. Connect directly to VCC or ground. Pullup resistors are not needed", 3 A2 (in) "Address input 2. Connect directly to VCC or ground. Pullup resistors are not needed", 4 P00 (io) "P-port input/output. Push-pull design structure", 5 P01 (io) "P-port input/output. Push-pull design structure.", 6 P02 (io) "P-port input/output. Push-pull design structure", 7 P03 (io) "P-port input/output. Push-pull design structure", 8 P04 (io) "P-port input/output. Push-pull design structure", 9 P05 (io) "P-port input/output. Push-pull design structure", 10 P06 (io) "P-port input/output. Push-pull design structure", 11 P07 (io) "P-port input/output. Push-pull design structure", 12 GND (power) "Ground", 13 P10 (io) "P-port input/output. Push-pull design structure.", 14 P11 (io) "P-port input/output. Push-pull design structure.", 15 P12 (io) "P-port input/output. Push-pull design structure.", 16 P13 (io) "P-port input/output. Push-pull design structure.", 17 P14 (io) "P-port input/output. Push-pull design structure.", 18 P15 (io) "P-port input/output. Push-pull design structure.", 19 P16 (io) "P-port input/output. Push-pull design structure.", 20 P17 (io) "P-port input/output. Push-pull design structure.", 21 A0 (in) "Address input 0. Connect directly to VCC or ground. Pullup resistors are not needed.", 22 SCL (in) "Serial clock line. Connect to VCC through a pullup resistor.", 23 SDA (io) "Serial data line. Connect to VCC through a pullup resistor.", 24 VCC (power) "Supply voltage"

## PCF8575DGVRE4
designator U?
Remote 16-Bit I2C and SMBus I/O Expander with Interrupt Output, 2.5 to 5.5 V, -40 to 85 degC, 24-pin TVSOP (DGV), Green (RoHS & no Sb/Br); Manufacturer: Texas Instruments; PartNumber: PCF8575DGVRE4; SubFamily: I2C IO Expander; Voltage Nodes(V): 5.5, 3.6, 2.7, 2.5; Interrupt Output: Yes; fSCLK(Max)(MHz): 0.4; VCC(Min)(V): 2.5; VCC(Max)(V): 5.5; Max Frequency(kHz): 400; I2C Address: 0100 xxx; # of I/Os: 16; DatasheetVersion: SCPS121D; PackageVersion: revE, Aug-2000; PackageReference: DGV24; PackageDescription: 24-Pin Thin Shrink Small Outline Package 0.4 mm Pitch; Supplier 1: Digi-Key; Supplier Part Number 1: PCF8575DGVRE4-ND; Supplier 2: Mouser; Supplier Part Number 2: 595-PCF8575DGVRE4; Eco-Plan: Green (RoHS & no Sb/Br); Reset Input: No; Vcc range(V): 2.5 to 5.5; Push-Pull I/O Type: Yes; Mounting Technology: Surface Mount; ComponentLink1Description: Datasheet; ComponentLink1URL: http://www.ti.com/general/docs/lit/getliterature.tsp?genericPartNumber=PCF8575&fileType=pdf; ComponentLink2Description: Package Specification; ComponentLink2URL: http://www.ti.com/litv/pdf/mpds211a
footprint DGV24_N (TSSOP, 24-Leads, Body 5x4.4mm, Pitch 0.4mm, IPC Medium Density)
footprint DGV24_L (TSSOP, 24-Leads, Body 5x4.4mm, Pitch 0.4mm, IPC High Density)
footprint DGV24_M (TSSOP, 24-Leads, Body 5x4.4mm, Pitch 0.4mm, IPC Low Density)
pins: 1 ~{INT} (oc) "Interrupt output. Connect to VCC through a pullup resistor", 2 A1 (in) "Address input 1. Connect directly to VCC or ground. Pullup resistors are not needed", 3 A2 (in) "Address input 2. Connect directly to VCC or ground. Pullup resistors are not needed", 4 P00 (io) "P-port input/output. Push-pull design structure", 5 P01 (io) "P-port input/output. Push-pull design structure.", 6 P02 (io) "P-port input/output. Push-pull design structure", 7 P03 (io) "P-port input/output. Push-pull design structure", 8 P04 (io) "P-port input/output. Push-pull design structure", 9 P05 (io) "P-port input/output. Push-pull design structure", 10 P06 (io) "P-port input/output. Push-pull design structure", 11 P07 (io) "P-port input/output. Push-pull design structure", 12 GND (power) "Ground", 13 P10 (io) "P-port input/output. Push-pull design structure.", 14 P11 (io) "P-port input/output. Push-pull design structure.", 15 P12 (io) "P-port input/output. Push-pull design structure.", 16 P13 (io) "P-port input/output. Push-pull design structure.", 17 P14 (io) "P-port input/output. Push-pull design structure.", 18 P15 (io) "P-port input/output. Push-pull design structure.", 19 P16 (io) "P-port input/output. Push-pull design structure.", 20 P17 (io) "P-port input/output. Push-pull design structure.", 21 A0 (in) "Address input 0. Connect directly to VCC or ground. Pullup resistors are not needed.", 22 SCL (in) "Serial clock line. Connect to VCC through a pullup resistor.", 23 SDA (io) "Serial data line. Connect to VCC through a pullup resistor.", 24 VCC (power) "Supply voltage"

## PCF8575DGVRG4
designator U?
Remote 16-Bit I2C and SMBus I/O Expander with Interrupt Output, 2.5 to 5.5 V, -40 to 85 degC, 24-pin TVSOP (DGV), Green (RoHS & no Sb/Br); Manufacturer: Texas Instruments; PartNumber: PCF8575DGVRG4; SubFamily: I2C IO Expander; Voltage Nodes(V): 5.5, 3.6, 2.7, 2.5; Interrupt Output: Yes; fSCLK(Max)(MHz): 0.4; VCC(Min)(V): 2.5; VCC(Max)(V): 5.5; Max Frequency(kHz): 400; I2C Address: 0100 xxx; # of I/Os: 16; DatasheetVersion: SCPS121D; PackageVersion: revE, Aug-2000; PackageReference: DGV24; PackageDescription: 24-Pin Thin Shrink Small Outline Package 0.4 mm Pitch; Supplier 1: Digi-Key; Supplier Part Number 1: PCF8575DGVRG4-ND; Supplier 2: Mouser; Supplier Part Number 2: 595-PCF8575DGVRG4; Eco-Plan: Green (RoHS & no Sb/Br); Reset Input: No; Vcc range(V): 2.5 to 5.5; Push-Pull I/O Type: Yes; Mounting Technology: Surface Mount; ComponentLink1Description: Datasheet; ComponentLink1URL: http://www.ti.com/general/docs/lit/getliterature.tsp?genericPartNumber=PCF8575&fileType=pdf; ComponentLink2Description: Package Specification; ComponentLink2URL: http://www.ti.com/litv/pdf/mpds211a
footprint DGV24_N (TSSOP, 24-Leads, Body 5x4.4mm, Pitch 0.4mm, IPC Medium Density)
footprint DGV24_L (TSSOP, 24-Leads, Body 5x4.4mm, Pitch 0.4mm, IPC High Density)
footprint DGV24_M (TSSOP, 24-Leads, Body 5x4.4mm, Pitch 0.4mm, IPC Low Density)
pins: 1 ~{INT} (oc) "Interrupt output. Connect to VCC through a pullup resistor", 2 A1 (in) "Address input 1. Connect directly to VCC or ground. Pullup resistors are not needed", 3 A2 (in) "Address input 2. Connect directly to VCC or ground. Pullup resistors are not needed", 4 P00 (io) "P-port input/output. Push-pull design structure", 5 P01 (io) "P-port input/output. Push-pull design structure.", 6 P02 (io) "P-port input/output. Push-pull design structure", 7 P03 (io) "P-port input/output. Push-pull design structure", 8 P04 (io) "P-port input/output. Push-pull design structure", 9 P05 (io) "P-port input/output. Push-pull design structure", 10 P06 (io) "P-port input/output. Push-pull design structure", 11 P07 (io) "P-port input/output. Push-pull design structure", 12 GND (power) "Ground", 13 P10 (io) "P-port input/output. Push-pull design structure.", 14 P11 (io) "P-port input/output. Push-pull design structure.", 15 P12 (io) "P-port input/output. Push-pull design structure.", 16 P13 (io) "P-port input/output. Push-pull design structure.", 17 P14 (io) "P-port input/output. Push-pull design structure.", 18 P15 (io) "P-port input/output. Push-pull design structure.", 19 P16 (io) "P-port input/output. Push-pull design structure.", 20 P17 (io) "P-port input/output. Push-pull design structure.", 21 A0 (in) "Address input 0. Connect directly to VCC or ground. Pullup resistors are not needed.", 22 SCL (in) "Serial clock line. Connect to VCC through a pullup resistor.", 23 SDA (io) "Serial data line. Connect to VCC through a pullup resistor.", 24 VCC (power) "Supply voltage"

## PCF8575DW
designator U?
Remote 16-Bit I2C and SMBus I/O Expander with Interrupt Output, 2.5 to 5.5 V, -40 to 85 degC, 24-pin SOIC (DW), Green (RoHS & no Sb/Br); Manufacturer: Texas Instruments; PartNumber: PCF8575DW; SubFamily: I2C IO Expander; Voltage Nodes(V): 5.5, 3.6, 2.7, 2.5; Interrupt Output: Yes; fSCLK(Max)(MHz): 0.4; VCC(Min)(V): 2.5; VCC(Max)(V): 5.5; Max Frequency(kHz): 400; I2C Address: 0100 xxx; # of I/Os: 16; DatasheetVersion: SCPS121D; PackageVersion: revG, Jan-2011; PackageReference: DW24; PackageDescription: 24-Pin Plastic Small Outline Integrated Circuit, 15.4 x 7.5 mm, Pitch 1.27 mm Pitch; Supplier 1: Digi-Key; Supplier Part Number 1: PCF8575DW-ND; Supplier 2: Newark; Supplier Part Number 2: 52K5809; Supplier 3: Mouser; Supplier Part Number 3: 595-PCF8575DW; Eco-Plan: Green (RoHS & no Sb/Br); Reset Input: No; Vcc range(V): 2.5 to 5.5; Push-Pull I/O Type: Yes; Mounting Technology: Surface Mount; Code_JEDEC: MS-013AD; ComponentLink1Description: Datasheet; ComponentLink1URL: http://www.ti.com/general/docs/lit/getliterature.tsp?genericPartNumber=PCF8575&fileType=pdf; ComponentLink2Description: Package Specification; ComponentLink2URL: http://www.ti.com/litv/pdf/mpds174a
footprint DW24_N (SOIC, 24-Leads, Body 15.4x7.5mm, Pitch 1.27mm, IPC Medium Density)
footprint DW24_L (SOIC, 24-Leads, Body 15.4x7.5mm, Pitch 1.27mm, IPC High Density)
footprint DW24_M (SOIC, 24-Leads, Body 15.4x7.5mm, Pitch 1.27mm, IPC Low Density)
pins: 1 ~{INT} (oc) "Interrupt output. Connect to VCC through a pullup resistor.", 2 A1 (in) "Address input 1. Connect directly to VCC or ground. Pullup resistors are not needed.", 3 A2 (in) "Address input 2. Connect directly to VCC or ground. Pullup resistors are not needed.", 4 P00 (io) "P-port input/output. Push-pull design structure.", 5 P01 (io) "P-port input/output. Push-pull design structure.", 6 P02 (io) "P-port input/output. Push-pull design structure.", 7 P03 (io) "P-port input/output. Push-pull design structure.", 8 P04 (io) "P-port input/output. Push-pull design structure.", 9 P05 (io) "P-port input/output. Push-pull design structure.", 10 P06 (io) "P-port input/output. Push-pull design structure.", 11 P07 (io) "P-port input/output. Push-pull design structure.", 12 GND (power) "Ground", 13 P10 (io) "P-port input/output. Push-pull design structure.", 14 P11 (io) "P-port input/output. Push-pull design structure.", 15 P12 (io) "P-port input/output. Push-pull design structure.", 16 P13 (io) "P-port input/output. Push-pull design structure.", 17 P14 (io) "P-port input/output. Push-pull design structure.", 18 P15 (io) "P-port input/output. Push-pull design structure.", 19 P16 (io) "P-port input/output. Push-pull design structure.", 20 P17 (io) "P-port input/output. Push-pull design structure.", 21 A0 (in) "Address input 0. Connect directly to VCC or ground. Pullup resistors are not needed.", 22 SCL (in) "Serial clock line. Connect to VCC through a pullup resistor.", 23 SDA (io) "Serial data line. Connect to VCC through a pullup resistor.", 24 VCC (power) "Supply voltage"

## PCF8575DWG4
designator U?
Remote 16-Bit I2C and SMBus I/O Expander with Interrupt Output, 2.5 to 5.5 V, -40 to 85 degC, 24-pin SOIC (DW), Green (RoHS & no Sb/Br); Manufacturer: Texas Instruments; PartNumber: PCF8575DWG4; SubFamily: I2C IO Expander; Voltage Nodes(V): 5.5, 3.6, 2.7, 2.5; Interrupt Output: Yes; fSCLK(Max)(MHz): 0.4; VCC(Min)(V): 2.5; VCC(Max)(V): 5.5; Max Frequency(kHz): 400; I2C Address: 0100 xxx; # of I/Os: 16; DatasheetVersion: SCPS121D; PackageVersion: revG, Jan-2011; PackageReference: DW24; PackageDescription: 24-Pin Plastic Small Outline Integrated Circuit, 15.4 x 7.5 mm, Pitch 1.27 mm Pitch; Supplier 1: Digi-Key; Supplier Part Number 1: PCF8575DWG4-ND; Supplier 2: Mouser; Supplier Part Number 2: 595-PCF8575DWG4; Eco-Plan: Green (RoHS & no Sb/Br); Reset Input: No; Vcc range(V): 2.5 to 5.5; Push-Pull I/O Type: Yes; Mounting Technology: Surface Mount; Code_JEDEC: MS-013AD; ComponentLink1Description: Datasheet; ComponentLink1URL: http://www.ti.com/general/docs/lit/getliterature.tsp?genericPartNumber=PCF8575&fileType=pdf; ComponentLink2Description: Package Specification; ComponentLink2URL: http://www.ti.com/litv/pdf/mpds174a
footprint DW24_N (SOIC, 24-Leads, Body 15.4x7.5mm, Pitch 1.27mm, IPC Medium Density)
footprint DW24_L (SOIC, 24-Leads, Body 15.4x7.5mm, Pitch 1.27mm, IPC High Density)
footprint DW24_M (SOIC, 24-Leads, Body 15.4x7.5mm, Pitch 1.27mm, IPC Low Density)
pins: 1 ~{INT} (oc) "Interrupt output. Connect to VCC through a pullup resistor.", 2 A1 (in) "Address input 1. Connect directly to VCC or ground. Pullup resistors are not needed.", 3 A2 (in) "Address input 2. Connect directly to VCC or ground. Pullup resistors are not needed.", 4 P00 (io) "P-port input/output. Push-pull design structure.", 5 P01 (io) "P-port input/output. Push-pull design structure.", 6 P02 (io) "P-port input/output. Push-pull design structure.", 7 P03 (io) "P-port input/output. Push-pull design structure.", 8 P04 (io) "P-port input/output. Push-pull design structure.", 9 P05 (io) "P-port input/output. Push-pull design structure.", 10 P06 (io) "P-port input/output. Push-pull design structure.", 11 P07 (io) "P-port input/output. Push-pull design structure.", 12 GND (power) "Ground", 13 P10 (io) "P-port input/output. Push-pull design structure.", 14 P11 (io) "P-port input/output. Push-pull design structure.", 15 P12 (io) "P-port input/output. Push-pull design structure.", 16 P13 (io) "P-port input/output. Push-pull design structure.", 17 P14 (io) "P-port input/output. Push-pull design structure.", 18 P15 (io) "P-port input/output. Push-pull design structure.", 19 P16 (io) "P-port input/output. Push-pull design structure.", 20 P17 (io) "P-port input/output. Push-pull design structure.", 21 A0 (in) "Address input 0. Connect directly to VCC or ground. Pullup resistors are not needed.", 22 SCL (in) "Serial clock line. Connect to VCC through a pullup resistor.", 23 SDA (io) "Serial data line. Connect to VCC through a pullup resistor.", 24 VCC (power) "Supply voltage"

## PCF8575DWR
designator U?
Remote 16-Bit I2C and SMBus I/O Expander with Interrupt Output, 2.5 to 5.5 V, -40 to 85 degC, 24-pin SOIC (DW), Green (RoHS & no Sb/Br); Manufacturer: Texas Instruments; PartNumber: PCF8575DWR; SubFamily: I2C IO Expander; Voltage Nodes(V): 5.5, 3.6, 2.7, 2.5; Interrupt Output: Yes; fSCLK(Max)(MHz): 0.4; VCC(Min)(V): 2.5; VCC(Max)(V): 5.5; Max Frequency(kHz): 400; I2C Address: 0100 xxx; # of I/Os: 16; DatasheetVersion: SCPS121D; PackageVersion: revG, Jan-2011; PackageReference: DW24; PackageDescription: 24-Pin Plastic Small Outline Integrated Circuit, 15.4 x 7.5 mm, Pitch 1.27 mm Pitch; Supplier 1: Digi-Key; Supplier Part Number 1: 296-20981-2-ND; Supplier 2: Digi-Key; Supplier Part Number 2: 296-20981-1-ND; Supplier 3: Digi-Key; Supplier Part Number 3: 296-20981-6-ND; Supplier 4: Mouser; Supplier Part Number 4: 595-PCF8575DWR; Eco-Plan: Green (RoHS & no Sb/Br); Reset Input: No; Vcc range(V): 2.5 to 5.5; Push-Pull I/O Type: Yes; Mounting Technology: Surface Mount; Code_JEDEC: MS-013AD; ComponentLink1Description: Datasheet; ComponentLink1URL: http://www.ti.com/general/docs/lit/getliterature.tsp?genericPartNumber=PCF8575&fileType=pdf; ComponentLink2Description: Package Specification; ComponentLink2URL: http://www.ti.com/litv/pdf/mpds174a
footprint DW24_N (SOIC, 24-Leads, Body 15.4x7.5mm, Pitch 1.27mm, IPC Medium Density)
footprint DW24_L (SOIC, 24-Leads, Body 15.4x7.5mm, Pitch 1.27mm, IPC High Density)
footprint DW24_M (SOIC, 24-Leads, Body 15.4x7.5mm, Pitch 1.27mm, IPC Low Density)
pins: 1 ~{INT} (oc) "Interrupt output. Connect to VCC through a pullup resistor.", 2 A1 (in) "Address input 1. Connect directly to VCC or ground. Pullup resistors are not needed.", 3 A2 (in) "Address input 2. Connect directly to VCC or ground. Pullup resistors are not needed.", 4 P00 (io) "P-port input/output. Push-pull design structure.", 5 P01 (io) "P-port input/output. Push-pull design structure.", 6 P02 (io) "P-port input/output. Push-pull design structure.", 7 P03 (io) "P-port input/output. Push-pull design structure.", 8 P04 (io) "P-port input/output. Push-pull design structure.", 9 P05 (io) "P-port input/output. Push-pull design structure.", 10 P06 (io) "P-port input/output. Push-pull design structure.", 11 P07 (io) "P-port input/output. Push-pull design structure.", 12 GND (power) "Ground", 13 P10 (io) "P-port input/output. Push-pull design structure.", 14 P11 (io) "P-port input/output. Push-pull design structure.", 15 P12 (io) "P-port input/output. Push-pull design structure.", 16 P13 (io) "P-port input/output. Push-pull design structure.", 17 P14 (io) "P-port input/output. Push-pull design structure.", 18 P15 (io) "P-port input/output. Push-pull design structure.", 19 P16 (io) "P-port input/output. Push-pull design structure.", 20 P17 (io) "P-port input/output. Push-pull design structure.", 21 A0 (in) "Address input 0. Connect directly to VCC or ground. Pullup resistors are not needed.", 22 SCL (in) "Serial clock line. Connect to VCC through a pullup resistor.", 23 SDA (io) "Serial data line. Connect to VCC through a pullup resistor.", 24 VCC (power) "Supply voltage"